# Altium footprint library bornera.PcbLib: 1 footprints
Each footprint in its own frame and in the unit in brackets; x right, y up, seen from the top. Pads: shape width x height; smd on the part's side, far side on the other; paste and mask are expansions set on the pad; w line width, h text height; cw(c..) or ccw(c..) is an arc to the next point about the centre after c.
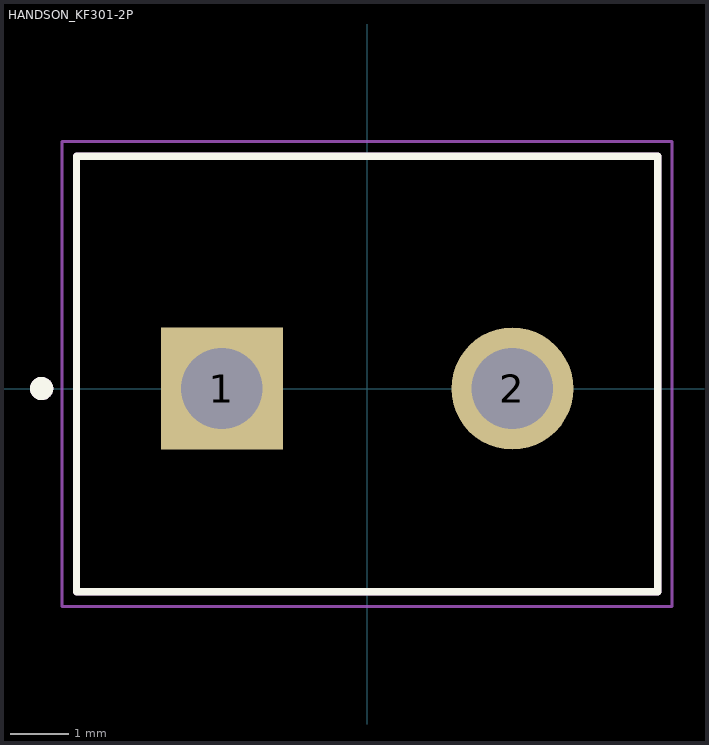
[diagram p0: the footprint, top view; thin cyan lines are the x and y axes]

## HANDSON_KF301-2P [mm]
pads (2):
  rect 2.1x2.1 hole 1.4: 1(-2.5,0)
  round 2.1 hole 1.4: 2(2.5,0)
Top Overlay:
  circle w0.2: c-5.6,0 r0.1
  lines w0.127: -5,-3.5 5,-3.5 5,4 -5,4 -5,-3.5
Mechanical 13:
  circle w0.2: c-5.6,0 r0.1
  lines w0.127: -5,-3.5 -5,4 5,4 5,-3.5 -5,-3.5
Mechanical 15:
  lines w0.05: -5.25,-3.75 -5.25,4.25 5.25,4.25 5.25,-3.75 -5.25,-3.75
3D body "User Library-bornera de 2 terminales.STEP": height 10.03, standoff -3.22, extent -4.793,-3.877 5.207,3.623